# Altium schematic symbol library Schlib1.SchLib: 1 symbol
Pins are listed as number, name and electrical type; pins without a type are passive.

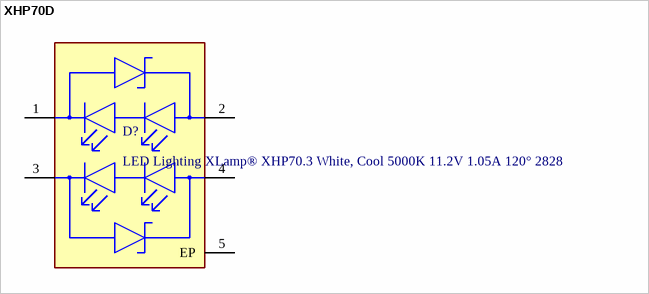
[diagram p0: symbol XHP70D]

## XHP70D
designator D?, comment LED Lighting XLamp® XHP70.3 White, Cool 5000K 11.2V 1.05A 120° 2828
pins: 1 1 CATHODE, 2 1 ANODE, 3 2 CATHODE, 4 2 ANODE, 5 EP